# Altium schematic symbol library 691 253 400 0xx.SchLib: 2 symbols
Pins are listed as number, name and electrical type; pins without a type are passive.

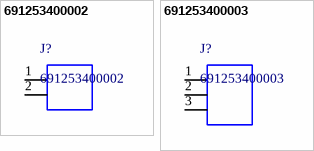
[diagram p0: symbols 691253400002 to 691253400003]

## 691253400002
designator J?
WR-TBL Vertical Cable Entry With Rising Cage Clamp,Serie 2534 - 7.62 mm; Manufacturer: Wurth Elektronik; ComponentLink1 Description: Manufacturer; ComponentLink2 Description: Datasheet; ComponentLink1URL: http://www.we-online.de; ComponentLink2URL: http://katalog.we-online.de/em/datasheet/6912534000xx.pdf; Created by: Baojun Chen; Created Date: 15.Sep.2015; partNo: 691253400002
footprint 691253400002 (Serie 2534 - 7.62 mm _ 2 pins)
pins: 1, 2

## 691253400003
designator J?
WR-TBL Vertical Cable Entry With Rising Cage Clamp,Serie 2534 - 7.62 mm; Manufacturer: Wurth Elektronik; ComponentLink1 Description: Manufacturer; ComponentLink2 Description: Datasheet; ComponentLink1URL: http://www.we-online.de; ComponentLink2URL: http://katalog.we-online.de/em/datasheet/6912534000xx.pdf; Created by: Baojun Chen; Created Date: 15.Sep.2015; partNo: 691253400003
footprint 691253400003 (Serie 2534 - 7.62 mm _ 3 pins)
pins: 1, 2, 3